# Altium integrated library BWSMA-KE-P001.IntLib: 1 symbol
Pins are listed as number, name and electrical type; pins without a type are passive.

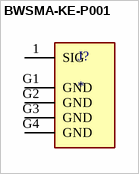
[diagram p0: symbol BWSMA-KE-P001]

## BWSMA-KE-P001
designator J?
5.2mm Plugin RF Connectors; MF: Bat Wireless; MP: BWSMA-KE-P001; SnapEDA_Link: https://www.snapeda.com/parts/BWSMA-KE-P001/Bat+Wireless/view-part/?ref=snap; Package: Package; Value: *; Check_prices: https://www.snapeda.com/parts/BWSMA-KE-P001/Bat+Wireless/view-part/?ref=eda
footprint BATWIRELESS_BWSMA-KE-P001
pins: 1 SIG, G1 GND (power), G2 GND (power), G3 GND (power), G4 GND (power)